# EAGLE library part 8PIN (library FH105)
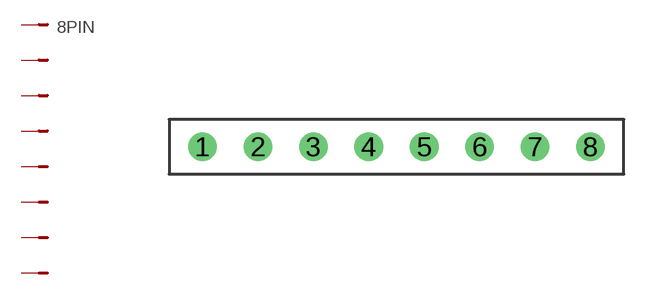
[diagram p0: symbol with the pads of FH105-1X8SG; footprint FH105-1X8SG]

Designator prefix -; gates -3=M -4=M -5=M -6=M -2=M -8=M -7=M -1=MV

## 8PIN  [FH105-1X8SG]
1  -1:P$1  pas
2  -2:P$1  pas
3  -3:P$1  pas
4  -4:P$1  pas
5  -5:P$1  pas
6  -6:P$1  pas
7  -7:P$1  pas
8  -8:P$1  pas

## Footprint FH105-1X8SG (pad centres in mm)
drill 0.8: 1 -8.89,0; 2 -6.35,0; 3 -3.81,0; 4 -1.27,0; 5 1.27,0; 6 3.81,0; 7 6.35,0; 8 8.89,0